# EAGLE library part MICRO-SD-SLOT (library Parts for D-DAQ)
MicroSD Receptacle Low profile and clearence slot with Card Detect pins
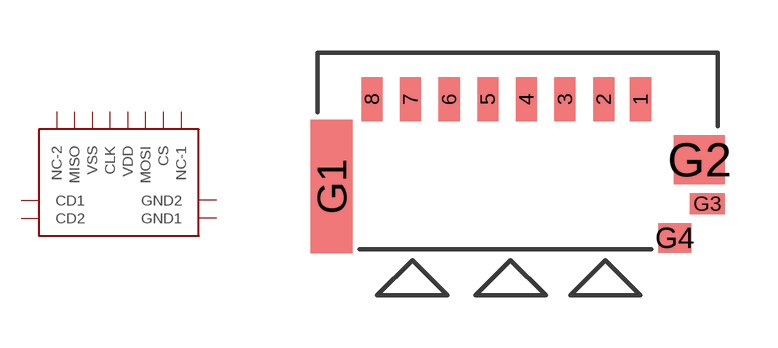
[diagram p9: symbol with the pads of SCHA4B0400; footprint SCHA4B0400]

Designator prefix -

## MICRO-SD-SLOT  [SCHA4B0400]
1  NC-1  nc
2  CS  in
3  MOSI  in
4  VDD  pwr
5  CLK  in
6  VSS  pwr
7  MISO  out
8  NC-2  nc
G1  GND1  pas
G2  GND2  pas
G3  CD1  pas
G4  CD2  pas

## Footprint SCHA4B0400 (pad centres in mm)
smd 0.6 x 1.25: 1 3.5,1.575; 2 2.45,1.575; 3 1.35,1.575; 4 0.25,1.575; 5 -0.85,1.575; 6 -1.95,1.575; 7 -3.05,1.575; 8 -4.15,1.575
smd 1.2 x 3.8: G1 -5.3,-0.905
smd 1.45 x 1.4: G2 5.175,-0.15
smd 1 x 0.6: G3 5.4,-1.4
smd 0.95 x 0.85: G4 4.475,-2.375